# Altium integrated library 4P-2.0.IntLib: 1 symbol
Pins are listed as number, name and electrical type; pins without a type are passive.

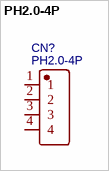
[diagram p0: symbol PH2.0-4P]

## PH2.0-4P
designator CN?
BOM_Manufacturer: CAX(创都); Contributor: LCSC; BOM_Supplier: LCSC; BOM_Supplier Part: C722763; BOM_Manufacturer Part: PH2.0-4P; BOM_JLCPCB Part Class: Extended Part; spicePre: C; spiceSymbolName: PH2.0-4P
footprint CONN-TH_PH2.0-4P
pins: 1, 2, 3, 4